# Altium schematic symbol library Schlib1.SchLib: 1 symbol
Pins are listed as number, name and electrical type; pins without a type are passive.

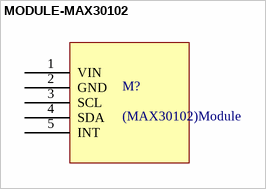
[diagram p0: symbol MODULE-MAX30102]

## MODULE-MAX30102
designator M?, comment (MAX30102)Module
Heart Rate Sensor Module (MAX30102)
footprint MODULE-MAX30102 (Footprint not found)
footprint MODULE-MAX30102 (Heart Rate Sensor Module (MAX30102))
pins: 1 VIN, 2 GND, 3 SCL, 4 SDA, 5 INT